# Altium footprint library MiscComponents.PcbLib: 19 footprints (part 2 of 2)
Each footprint in its own frame and in the unit in brackets; x right, y up, seen from the top. Pads: shape width x height; smd on the part's side, far side on the other; paste and mask are expansions set on the pad; w line width, h text height; cw(c..) or ccw(c..) is an arc to the next point about the centre after c.
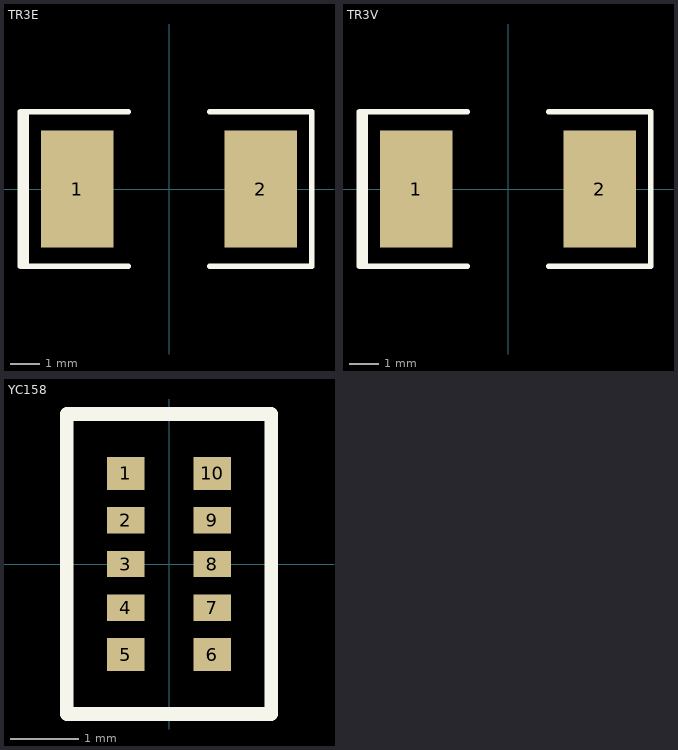
[diagram p1: the footprints below, top view; thin cyan lines are the x and y axes]

## TR3E [mm]
height 4
pads (2):
  rect 2.5x4 smd: 1(-3.15,0) 2(3.15,0)
Top Overlay:
  lines w0.2: -4.9,-2.65 -4.9,2.65 ; -1.4,-2.65 -5.1,-2.65 -5.1,2.65 -1.4,2.65 ; 1.4,-2.65 4.9,-2.65 4.9,2.65 1.4,2.65

## TR3V [mm]
height 2
pads (2):
  rect 2.5x4 smd: 1(-3.15,0) 2(3.15,0)
Top Overlay:
  lines w0.2: -4.9,-2.65 -4.9,2.65 ; -1.4,-2.65 -5.1,-2.65 -5.1,2.65 -1.4,2.65 ; 1.4,-2.65 4.9,-2.65 4.9,2.65 1.4,2.65

## YC158 [mm]
height 0.6
pads (10):
  rect 0.55x0.486 smd: 1(-0.636,1.33) 5(-0.635,-1.33) 6(0.635,-1.33) 10(0.635,1.33)
  rect 0.55x0.386 smd: 2(-0.635,0.64) 3(-0.635,0) 4(-0.635,-0.64) 7(0.635,-0.64) 8(0.635,0) 9(0.635,0.64)
Top Overlay:
  lines w0.2: -1.5,-2.2 1.5,-2.2 1.5,2.2 -1.5,2.2 -1.5,-2.2